# Altium footprint library 2.4G-ANT.PcbLib: 1 footprints
Each footprint in its own frame and in the unit in brackets; x right, y up, seen from the top. Pads: shape width x height; smd on the part's side, far side on the other; paste and mask are expansions set on the pad; w line width, h text height; cw(c..) or ccw(c..) is an arc to the next point about the centre after c.
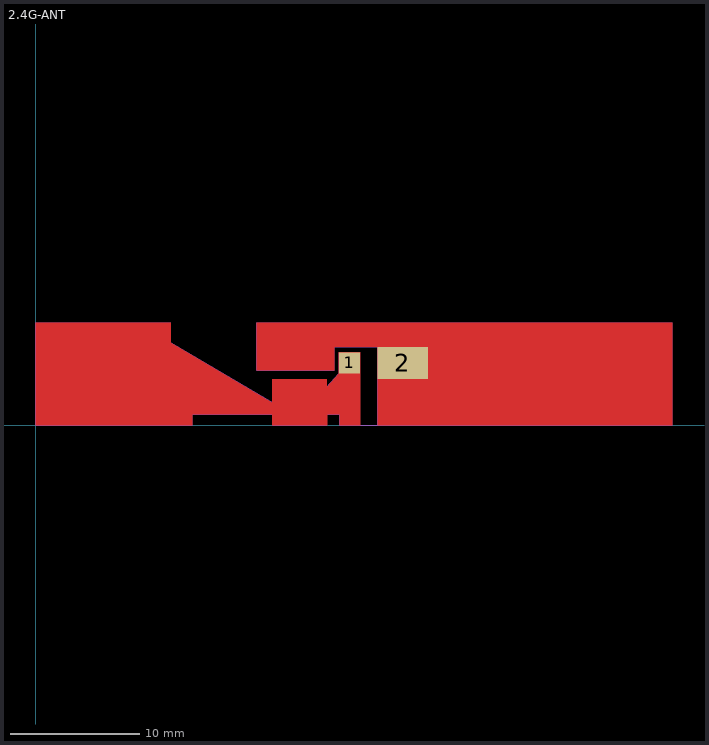
[diagram p0: the footprint, top view; thin cyan lines are the x and y axes]

## 2.4G-ANT [mm]
height 0.7
pads (2):
  rect 1.65x1.625 smd: 1(24.325,4.825)
  rect 3.92x2.49 smd: 2(28.475,4.825)
Top Layer:
  region: 0,7.925 0,0 12.15,0 12.15,0.85 18.375,0.85 18.35,0.825 18.35,0 22.6,0 22.6,0.85 23.575,0.85 23.575,0 25.15,0 25.15,5.65 23.5,5.65 23.5,4 22.6,2.975 22.575,2.95 22.575,3.55 18.35,3.55 18.35,1.75 10.45,6.375 10.45,7.925
  region: 17.15,4.25 23.15,4.25 23.15,6.075 26.525,6.075 26.525,0 49.35,0 49.35,7.925 17.15,7.925
Top Solder:
  rectangle: 26.525,3.59 30.445,6.08
Mechanical 15:
  lines w0.025: 22.58,2.95 23.52,4.02 ; 25.13,4.02 23.52,4.02 ; 18.36,0 18.36,0.85 12.14,0.85 12.14,0 0,0 0,7.92 10.45,7.92 10.45,6.38 18.36,1.75 18.36,3.55 ; 18.36,0 22.58,0 ; 18.36,0 18.36,3.55 ; 18.36,3.55 22.58,3.55 22.58,0 ; 22.58,0 22.58,0.85 23.58,0.85 23.58,0 25.13,0 ; 23.52,4.02 23.52,5.63 25.13,5.63 25.13,0 ; 25.13,0 26.53,0 ; 26.53,0 49.36,0 49.36,7.92 17.15,7.92 17.15,4.24 23.15,4.24 23.15,6.08 26.53,6.08 26.53,0